# Altium footprint library Capstone_Motor_Driver_PCB.PcbLib: 14 footprints
Each footprint in its own frame and in the unit in brackets; x right, y up, seen from the top. Pads: shape width x height; smd on the part's side, far side on the other; paste and mask are expansions set on the pad; w line width, h text height; cw(c..) or ccw(c..) is an arc to the next point about the centre after c.
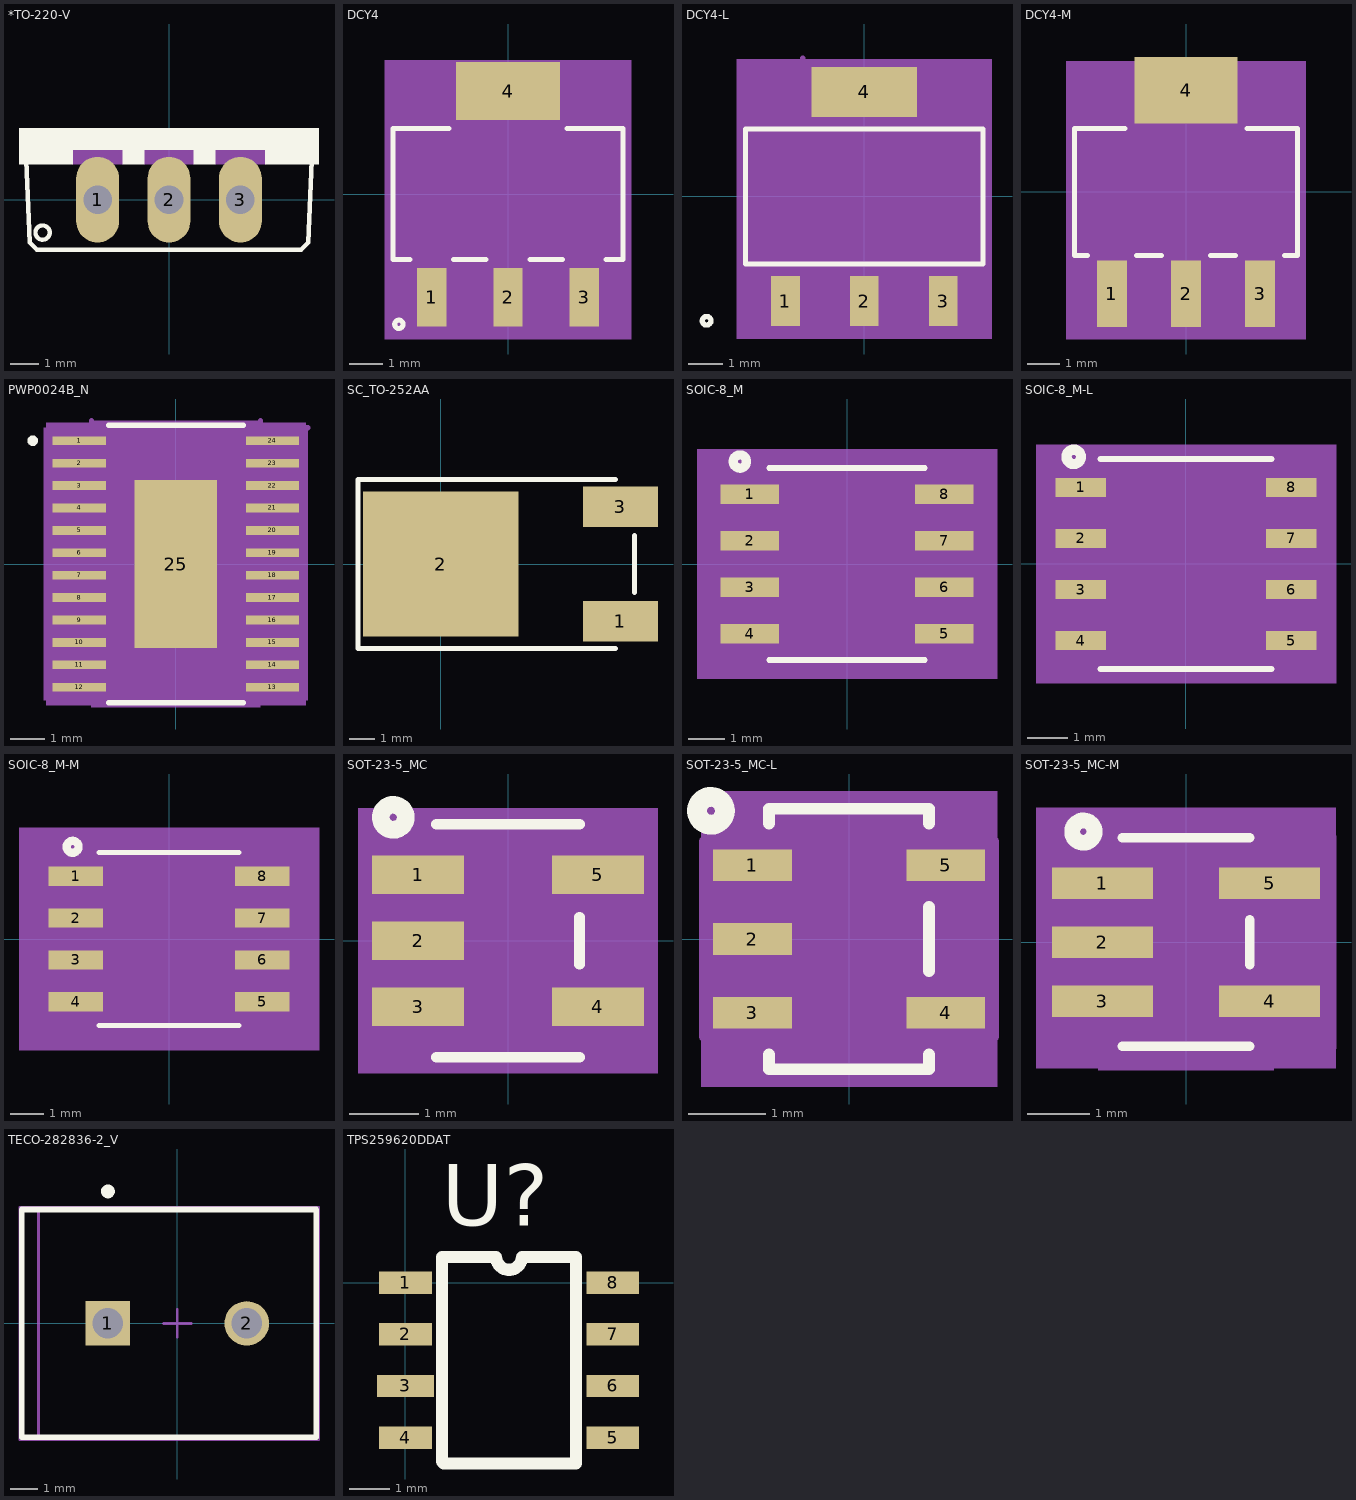
[diagram p0: the footprints below, top view; thin cyan lines are the x and y axes]

## *TO-220-V [mil]
pads (3):
  oval 60x120 hole 40: 1(-100,0) 2(0,0) 3(100,0)
Top Overlay:
  circle w6: c-177,-46 r10
  region: 135,70 210,70 210,50 135,50
  region: 35,70 65,70 65,50 35,50
  region: -65,70 -35,70 -35,50 -65,50
  region: -210,70 -135,70 -135,50 -210,50
  region: -210,100 210,100 210,70 -210,70
  lines w6: -200,55 -195,-60 -185,-70 185,-70 195,-60 200,55
Mechanical 13:
  region: 65,70 135,70 135,50 65,50
  region: -35,70 35,70 35,50 -35,50
  region: -135,70 -65,70 -65,50 -135,50
  region: 65,70 135,70 135,50 65,50
  region: -35,70 35,70 35,50 -35,50
  region: -135,70 -65,70 -65,50 -135,50

## DCY4 [mil]
pads (4):
  rect 35x69.5 smd paste+0 mask+0: 1(-91,-122.75) 2(0,-122.75) 3(91,-122.75)
  rect 124x69.5 smd paste+0 mask+0: 4(0,122.75)
Top Overlay:
  circle w6: c-130,-155 r5
  lines w6: -116.96,-78 -137,-78 -137,78 -70.46,78 ; -65.04,-78 -25.96,-78 ; 25.96,-78 65.04,-78 ; 70.46,78 137,78 137,-78 116.96,-78
Mechanical 5:
  region: -147,159.5 147,159.5 147,-172.5 -147,-172.5
Mechanical 13:
  circle w0: c-122,-63 r5
  lines w1: -132,-73 -132,73 132,73 132,-73 -132,-73 ; -107.5,-143.5 -74.5,-143.5 -74.5,-73 -107.5,-73 -107.5,-143.5 ; -61,73 -61,143.5 61,143.5 61,73 -61,73 ; -16.5,-143.5 16.5,-143.5 16.5,-73 -16.5,-73 -16.5,-143.5 ; 74.5,-143.5 107.5,-143.5 107.5,-73 74.5,-73 74.5,-143.5
Mechanical 15:
  lines w6: -71,83 -142,83 -142,-83 -117.5,-83 -117.5,-167.5 117.5,-167.5 117.5,-83 142,-83 142,83 71,83
3D body: height 10, standoff 0, extent 0,0 10,10
3D body "DCY4.step": height 67.09, standoff 0, extent -132,-143.5 132.01,143.51

## DCY4-L [mil]
pads (4):
  rect 33x57.5 smd paste+0 mask+0: 1(-91,-120.75) 2(0,-120.75) 3(91,-120.75)
  rect 122x57.5 smd paste+0 mask+0: 4(0,120.75)
Top Overlay:
  circle w6: c-182,-143.5 r5
  lines w6: -137,-78 -137,78 137,78 137,-78 -137,-78
Mechanical 5:
  region: -147,158.5 147,158.5 147,-164.5 -147,-164.5
Mechanical 13:
  circle w0: c-122,-63 r5
  lines w1: -107.5,-143.5 -107.5,-73 -74.5,-73 -74.5,-143.5 ; -16.5,-143.5 -16.5,-73 16.5,-73 16.5,-143.5 ; 74.5,-143.5 74.5,-73 107.5,-73 107.5,-143.5 ; -132,-73 -132,73 132,73 132,-73 -132,-73 ; -61,73 -61,143.5 61,143.5 61,73 -61,73
Mechanical 15:
  lines w6: -117.5,-159.5 -117.5,-83 -142,-83 -142,83 -71,83 -71,159.5 ; 71,83 142,83 142,-83 117.5,-83 117.5,-159.5
3D body: height 10, standoff 0, extent 0,0 10,10
3D body "DCY4-L.step": height 67.09, standoff 0, extent -132,-143.5 132.01,143.51

## DCY4-M [mil]
pads (4):
  rect 37x81.5 smd paste+0 mask+0: 1(-91,-124.75) 2(0,-124.75) 3(91,-124.75)
  rect 126x81.5 smd paste+0 mask+0: 4(0,124.75)
Top Overlay:
  lines w6: -121.15,-78 -137,-78 -137,78 -74.65,78 ; -60.85,-78 -30.15,-78 ; 30.15,-78 60.85,-78 ; 74.65,78 137,78 137,-78 121.15,-78
Mechanical 5:
  region: -147,160.5 147,160.5 147,-180.5 -147,-180.5
Mechanical 13:
  circle w0: c-122,-63 r5
  lines w1: -132,-73 132,-73 132,73 -132,73 -132,-73 ; -107.5,-143.5 -107.5,-73 -74.5,-73 -74.5,-143.5 -107.5,-143.5 ; -61,73 61,73 61,143.5 -61,143.5 -61,73 ; -16.5,-143.5 -16.5,-73 16.5,-73 16.5,-143.5 -16.5,-143.5 ; 74.5,-143.5 74.5,-73 107.5,-73 107.5,-143.5 74.5,-143.5
Mechanical 15:
  lines w6: -71,83 -142,83 -142,-83 -117.5,-83 -117.5,-175.5 117.5,-175.5 117.5,-83 142,-83 142,83 71,83
3D body: height 10, standoff 0, extent 0,0 10,10
3D body "DCY4-M.step": height 67.09, standoff 0, extent -132,-143.5 132.01,143.51

## PWP0024B_N [mil]
pads (25):
  rect 61x10 smd paste+0 mask+2: 1(-110.24,140.75) 2(-110.24,115.16) 3(-110.24,89.57) 4(-110.24,63.98) 5(-110.24,38.39) 6(-110.24,12.8) 7(-110.24,-12.8) 8(-110.24,-38.39) 9(-110.24,-63.98) 10(-110.24,-89.57) 11(-110.24,-115.16) 12(-110.24,-140.75) 13(110.24,-140.75) 14(110.24,-115.16) 15(110.24,-89.57) 16(110.24,-63.98) 17(110.24,-38.39) 18(110.24,-12.8) 19(110.24,12.8) 20(110.24,38.39) 21(110.24,63.98) 22(110.24,89.57) 23(110.24,115.16) 24(110.24,140.75)
  rect 94x192 smd paste-95.5 mask+3: 25(0,0)
Top Overlay:
  circle w6: c-163.53,140.75 r3
  lines w6: -76.74,-158.5 76.74,-158.5 ; -76.74,158.5 76.74,158.5
Top Paste:
  region: 43.06,-35.94 -43.06,-35.94 -43.06,-92.06 43.06,-92.06
  region: 43.06,28.06 -43.06,28.06 -43.06,-28.06 43.06,-28.06
  region: 43.06,92.06 -43.06,92.06 -43.06,35.94 43.06,35.94
Mechanical 5:
  region: 148.24,-161 -148.24,-161 -148.24,161 148.24,161
Mechanical 13:
  circle w0: c-76.5,140.75 r3
  lines w0: -12,153.5 ccw(c0,153.5) 12,153.5
  lines w1: -86.5,-153.5 -86.5,153.5 86.5,153.5 86.5,-153.5 -86.5,-153.5
Mechanical 15:
  region: -96.5,-155.54 -150.74,-155.54 -150.74,155.54 -96.5,155.54 -96.5,163.5 96.5,163.5 96.5,155.54 150.74,155.54 150.74,-155.54 96.5,-155.54 96.5,-163.5 -96.5,-163.5
  lines w6: -96.5,155.54 -96.5,163.5 ; 96.5,163.5 96.5,155.54 150.74,155.54
Mechanical 16:
  circle w0.5: c-51.18,127.96 r6.25
  circle w0.5: c-51.18,76.77 r6.25
  circle w0.5: c-51.18,25.59 r6.25
  circle w0.5: c-51.18,-25.59 r6.25
  circle w0.5: c-51.18,-76.77 r6.25
  circle w0.5: c-51.18,-127.95 r6.25
  circle w0.5: c51.18,127.96 r6.25
  circle w0.5: c51.18,76.77 r6.25
  circle w0.5: c51.18,25.59 r6.25
  circle w0.5: c51.18,-25.59 r6.25
  circle w0.5: c51.18,-76.77 r6.25
  circle w0.5: c51.18,-127.95 r6.25
  circle w0.5: c0,127.96 r6.25
  circle w0.5: c0,76.77 r6.25
  circle w0.5: c0,25.59 r6.25
  circle w0.5: c0,-25.59 r6.25
  circle w0.5: c0,-76.77 r6.25
  circle w0.5: c0,-127.95 r6.25
3D body: height 10, standoff 0, extent 0,0 10,10

## SC_TO-252AA [mm] "D-PAK"
height 2.38
pads (3):
  rect 3x1.6 smd: 1(7.18,-2.286) 3(7.18,2.286)
  rect 6.2x5.8 smd: 2(0,0)
Top Overlay:
  lines w0.2: 6.985,-3.378 -3.302,-3.378 -3.302,3.378 6.985,3.378 ; 7.747,-1.143 7.747,1.143
3D body "User Library-TO252AA.STEP": height 2.3, standoff -0.01, extent -2.7,-3.29 7,3.29

## SOIC-8_M [mil]
pads (8):
  rect 63x21 smd: 1(-104.5,75) 2(-104.5,25) 3(-104.5,-25) 4(-104.5,-75) 5(104.5,-75) 6(104.5,-25) 7(104.5,25) 8(104.5,75)
Top Overlay:
  circle w10: c-115,110 r7.07
  lines w6: -83.5,-103 83.5,-103 ; -83.5,103 83.5,103
Mechanical 5:
  region: 161,-123 -161,-123 -161,123 161,123
Mechanical 13:
  lines w0: -12,98 ccw(c0,98) 12,98
  lines w1: -122,-84.5 -78.5,-84.5 -78.5,-65.5 -122,-65.5 -122,-84.5 ; -122,-34.5 -78.5,-34.5 -78.5,-15.5 -122,-15.5 -122,-34.5 ; -122,15.5 -78.5,15.5 -78.5,34.5 -122,34.5 -122,15.5 ; -122,65.5 -78.5,65.5 -78.5,84.5 -122,84.5 -122,65.5 ; -78.5,-98 -78.5,98 78.5,98 78.5,-98 -78.5,-98 ; 78.5,-84.5 122,-84.5 122,-65.5 78.5,-65.5 78.5,-84.5 ; 78.5,-34.5 122,-34.5 122,-15.5 78.5,-15.5 78.5,-34.5 ; 78.5,15.5 122,15.5 122,34.5 78.5,34.5 78.5,15.5 ; 78.5,65.5 122,65.5 122,84.5 78.5,84.5 78.5,65.5
  text "*" at -76,45 h50
Mechanical 15:
  region: -88.5,-95.5 -146,-95.5 -146,95.5 -88.5,95.5 -88.5,108 88.5,108 88.5,95.5 146,95.5 146,-95.5 88.5,-95.5 88.5,-108 -88.5,-108
  lines w6: -146,-95.5 -88.5,-95.5 -88.5,-108 88.5,-108 88.5,-95.5 146,-95.5 146,95.5 88.5,95.5 88.5,108 -88.5,108 -88.5,95.5 -146,95.5 -146,-95.5
3D body: height 10, standoff 0, extent 0,0 10,10
3D body "SOIC-8_M.step": height 66.1, standoff 0, extent -122,-97.99 122.01,98

## SOIC-8_M-L [mil]
pads (8):
  rect 49.5x19 smd paste+0 mask+0: 1(-103.25,75) 2(-103.25,25) 3(-103.25,-25) 4(-103.25,-75) 5(103.25,-75) 6(103.25,-25) 7(103.25,25) 8(103.25,75)
Top Overlay:
  circle w10: c-110,105 r7.07
  lines w6: -83.5,-103 83.5,-103 ; -83.5,103 83.5,103
Mechanical 5:
  region: 147,-117 -147,-117 -147,117 147,117
Mechanical 13:
  lines w0: -12,98 ccw(c0,98) 12,98
  lines w1: -122,-84.5 -122,-65.5 -78.5,-65.5 -78.5,-84.5 -122,-84.5 ; -122,-34.5 -122,-15.5 -78.5,-15.5 -78.5,-34.5 -122,-34.5 ; -122,15.5 -122,34.5 -78.5,34.5 -78.5,15.5 -122,15.5 ; -122,65.5 -122,84.5 -78.5,84.5 -78.5,65.5 -122,65.5 ; -78.5,-98 78.5,-98 78.5,98 -78.5,98 -78.5,-98 ; 78.5,-84.5 78.5,-65.5 122,-65.5 122,-84.5 78.5,-84.5 ; 78.5,-34.5 78.5,-15.5 122,-15.5 122,-34.5 78.5,-34.5 ; 78.5,15.5 78.5,34.5 122,34.5 122,15.5 78.5,15.5 ; 78.5,65.5 78.5,84.5 122,84.5 122,65.5 78.5,65.5
  text "*" at -76,45 h50
Mechanical 15:
  region: -82.5,-88.5 -132,-88.5 -132,88.5 -82.5,88.5 -82.5,102 82.5,102 82.5,88.5 132,88.5 132,-88.5 82.5,-88.5 82.5,-102 -82.5,-102
  lines w6: -132,-88.5 -132,88.5 -82.5,88.5 -82.5,102 82.5,102 82.5,88.5 132,88.5 132,-88.5 82.5,-88.5 82.5,-102 -82.5,-102 -82.5,-88.5 -132,-88.5
3D body: height 10, standoff 0, extent 0,0 10,10
3D body "SOIC-8_M-L.step": height 66.1, standoff 0, extent -122,-97.99 122.01,98

## SOIC-8_M-M [mil]
pads (8):
  rect 65.5x23 smd paste+0 mask+0: 1(-111.25,75) 2(-111.25,25) 3(-111.25,-25) 4(-111.25,-75) 5(111.25,-75) 6(111.25,-25) 7(111.25,25) 8(111.25,75)
Top Overlay:
  circle w10: c-115,110 r7.07
  lines w6: -83.5,-103 83.5,-103 ; -83.5,103 83.5,103
Mechanical 5:
  region: 179,-133 -179,-133 -179,133 179,133
Mechanical 13:
  lines w0: -12,98 ccw(c0,98) 12,98
  lines w1: -122,-84.5 -78.5,-84.5 -78.5,-65.5 -122,-65.5 -122,-84.5 ; -122,-34.5 -78.5,-34.5 -78.5,-15.5 -122,-15.5 -122,-34.5 ; -122,15.5 -78.5,15.5 -78.5,34.5 -122,34.5 -122,15.5 ; -122,65.5 -78.5,65.5 -78.5,84.5 -122,84.5 -122,65.5 ; -78.5,-98 -78.5,98 78.5,98 78.5,-98 -78.5,-98 ; 78.5,-84.5 122,-84.5 122,-65.5 78.5,-65.5 78.5,-84.5 ; 78.5,-34.5 122,-34.5 122,-15.5 78.5,-15.5 78.5,-34.5 ; 78.5,15.5 122,15.5 122,34.5 78.5,34.5 78.5,15.5 ; 78.5,65.5 122,65.5 122,84.5 78.5,84.5 78.5,65.5
  text "*" at -76,45 h50
Mechanical 15:
  region: -98.5,-106.5 -164,-106.5 -164,106.5 -98.5,106.5 -98.5,118 98.5,118 98.5,106.5 164,106.5 164,-106.5 98.5,-106.5 98.5,-118 -98.5,-118
  lines w6: -164,-106.5 -98.5,-106.5 -98.5,-118 98.5,-118 98.5,-106.5 164,-106.5 164,106.5 98.5,106.5 98.5,118 -98.5,118 -98.5,106.5 -164,106.5 -164,-106.5
3D body: height 10, standoff 0, extent 0,0 10,10
3D body "SOIC-8_M-M.step": height 66.1, standoff 0, extent -122,-97.99 122.01,98

## SOT-23-5_MC [mil]
pads (5):
  rect 52x22 smd paste+0 mask+0: 1(-51,37.4) 2(-51,0) 3(-51,-37.4) 4(51,-37.4) 5(51,37.4)
Top Overlay:
  circle w10: c-65,70 r7.07
  lines w6: -40.5,-66 40.5,-66 ; -40.5,66 40.5,66 ; 40.5,-13.3 40.5,13.3
Mechanical 5:
  region: 85,-75 -85,-75 -85,75 85,75
Mechanical 13:
  lines w0: -12,61 ccw(c0,61) 12,61
  lines w1: -63,-47.4 -63,-27.4 -35.5,-27.4 -35.5,-47.4 -63,-47.4 ; -63,-10 -63,10 -35.5,10 -35.5,-10 -63,-10 ; -63,27.4 -63,47.4 -35.5,47.4 -35.5,27.4 -63,27.4 ; -35.5,-61 35.5,-61 35.5,61 -35.5,61 -35.5,-61 ; 35.5,-47.4 35.5,-27.4 63,-27.4 63,-47.4 35.5,-47.4 ; 35.5,27.4 35.5,47.4 63,47.4 63,27.4 35.5,27.4
  text "*" at -38,16.4 h50
Mechanical 15:
  region: 45.5,-71 -45.5,-71 -45.5,-52.4 -78,-52.4 -78,52.4 -45.5,52.4 -45.5,71 45.5,71 45.5,52.4 78,52.4 78,-52.4 45.5,-52.4
  lines w6: -78,-52.4 -45.5,-52.4 -45.5,-71 45.5,-71 45.5,-52.4 78,-52.4 78,52.4 45.5,52.4 45.5,71 -45.5,71 -45.5,52.4 -78,52.4 -78,-52.4
3D body: height 10, standoff 0, extent 0,0 10,10

## SOT-23-5_MC-L [mil]
pads (5):
  rect 40x16 smd paste+0 mask+0: 1(-49,37.4) 2(-49,0) 3(-49,-37.4) 4(49,-37.4) 5(49,37.4)
Top Overlay:
  circle w10: c-70,65 r7.07
  lines w6: -40.5,-58.5 -40.5,-66 40.5,-66 40.5,-58.5 ; -40.5,58.5 -40.5,66 40.5,66 40.5,58.5 ; 40.5,-16.3 40.5,16.3
Mechanical 5:
  region: 75,-75 -75,-75 -75,75 75,75
Mechanical 13:
  lines w0: -12,61 ccw(c0,61) 12,61
  lines w1: -63,-47.4 -63,-27.4 -35.5,-27.4 -35.5,-47.4 -63,-47.4 ; -63,-10 -63,10 -35.5,10 -35.5,-10 -63,-10 ; -63,27.4 -63,47.4 -35.5,47.4 -35.5,27.4 -63,27.4 ; -35.5,-61 35.5,-61 35.5,61 -35.5,61 -35.5,-61 ; 35.5,-47.4 35.5,-27.4 63,-27.4 63,-47.4 35.5,-47.4 ; 35.5,27.4 35.5,47.4 63,47.4 63,27.4 35.5,27.4
  text "*" at -38,10.4 h50
Mechanical 15:
  region: 39.5,-65 -39.5,-65 -39.5,-49.4 -73,-49.4 -73,49.4 -39.5,49.4 -39.5,65 39.5,65 39.5,49.4 73,49.4 73,-49.4 39.5,-49.4
  lines w6: -73,-49.4 -39.5,-49.4 -39.5,-65 39.5,-65 39.5,-49.4 73,-49.4 73,49.4 39.5,49.4 39.5,65 -39.5,65 -39.5,49.4 -73,49.4 -73,-49.4
3D body: height 10, standoff 0, extent 0,0 10,10

## SOT-23-5_MC-M [mil]
pads (5):
  rect 64x20 smd paste+0 mask+0: 1(-53,37.4) 2(-53,0) 3(-53,-37.4) 4(53,-37.4) 5(53,37.4)
Top Overlay:
  circle w10: c-65,70 r7.07
  lines w6: -40.5,-66 40.5,-66 ; -40.5,66 40.5,66 ; 40.5,-14.3 40.5,14.3
Mechanical 5:
  region: 95,-80 -95,-80 -95,85 95,85
Mechanical 13:
  lines w0: -12,61 ccw(c0,61) 12,61
  lines w1: -63,-47.4 -63,-27.4 -35.5,-27.4 -35.5,-47.4 -63,-47.4 ; -63,-10 -63,10 -35.5,10 -35.5,-10 -63,-10 ; -63,27.4 -63,47.4 -35.5,47.4 -35.5,27.4 -63,27.4 ; -35.5,-61 35.5,-61 35.5,61 -35.5,61 -35.5,-61 ; 35.5,-47.4 35.5,-27.4 63,-27.4 63,-47.4 35.5,-47.4 ; 35.5,27.4 35.5,47.4 63,47.4 63,27.4 35.5,27.4
  text "*" at -38,14.4 h50
Mechanical 15:
  region: 55.5,-81 -55.5,-81 -55.5,-67.4 -95,-67.4 -95,67.4 -55.5,67.4 -55.5,81 55.5,81 55.5,67.4 95,67.4 95,-67.4 55.5,-67.4
  lines w6: -55.5,67.4 -55.5,81 55.5,81 55.5,67.4
3D body: height 10, standoff 0, extent 0,0 10,10

## TECO-282836-2_V [mm] "Female Header, Pitch 5mm, 1 x 2 Position, Height 10mm"
height 10
pads (2):
  rect 1.6x1.6 hole 1.1: 1(-2.5,0)
  round 1.6 hole 1.1: 2(2.5,0)
Top Overlay:
  circle w0.25: c-2.5,4.75 r0.125
  lines w0.2: -5.6,-4.1 5,-4.1 5,4.1 -5.6,4.1 -5.6,-4.1
Mechanical 13:
  lines w0.1: -5,-4.1 -5,4.1 5,4.1 5,-4.1 -5,-4.1
Mechanical 15:
  lines w0.05: -5.7,-4.2 -5.7,4.2 5.1,4.2 5.1,-4.2 -5.7,-4.2
  lines w0.1: -0.5,0 0.5,0 ; 0,-0.5 0,0.5
3D body "c-282836-2-h-3d.stp": height 10, standoff -3.5, extent -5.6,-4.1 5,4.1

## TPS259620DDAT [mm]
pads (8):
  rect 1.3x0.55 smd: 1(0,0) 2(0,-1.27) 4(0,-3.81) 5(5.1,-3.81) 6(5.1,-2.54) 7(5.1,-1.27) 8(5.1,0)
  rect 1.4x0.55 smd: 3(0,-2.54)
Top Overlay:
  lines w0.3: 0.9,-4.4 0.9,-2.975 0.9,-0.835 0.9,0.635 2.232,0.635 ccw(c2.55,0.635) 2.867,0.635 4.2,0.635 4.2,-4.445 0.945,-4.445 0.9,-4.4
  text "U?" at 0.9,1.4 h1.52